# Altium schematic symbol library STSPIN32G0A2.SchLib: 1 symbol
Pins are listed as number, name and electrical type; pins without a type are passive.

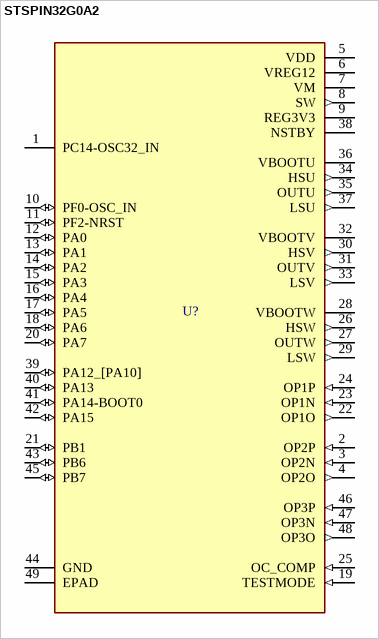
[diagram p0: symbol STSPIN32G0A2]

## STSPIN32G0A2
designator U?
Advanced brushless motor controller with embedded STM32G0 MCU
pins: 1 PC14-OSC32_IN, 2 OP2P (in), 3 OP2N (in), 4 OP2O (out), 5 VDD (power), 6 VREG12 (power), 7 VM (power), 8 SW (out), 9 REG3V3 (power), 10 PF0-OSC_IN (io), 11 PF2-NRST (io), 12 PA0 (io), 13 PA1 (io), 14 PA2 (io), 15 PA3 (io), 16 PA4 (io), 17 PA5 (io), 18 PA6 (io), 19 TESTMODE (in), 20 PA7 (io), 21 PB1 (io), 22 OP1O (out), 23 OP1N (in), 24 OP1P (in), 25 OC_COMP (in), 26 HSW (out), 27 OUTW (out), 28 VBOOTW (power), 29 LSW (out), 30 HSV (out), 31 OUTV (out), 32 VBOOTV (power), 33 LSV (out), 34 HSU (out), 35 OUTU (out), 36 VBOOTU (power), 37 LSU (out), 38 NSTBY, 39 PA12_[PA10] (io), 40 PA13 (io), 41 PA14-BOOT0 (io), 42 PA15 (io), 43 PB6 (io), 44 GND (power), 45 PB7 (io), 46 OP3P (in), 47 OP3N (in), 48 OP3O (out), 49 EPAD (power)